# Altium footprint library ee52_tago_pcb.PcbLib: 13 footprints
Each footprint in its own frame and in the unit in brackets; x right, y up, seen from the top. Pads: shape width x height; smd on the part's side, far side on the other; paste and mask are expansions set on the pad; w line width, h text height; cw(c..) or ccw(c..) is an arc to the next point about the centre after c.
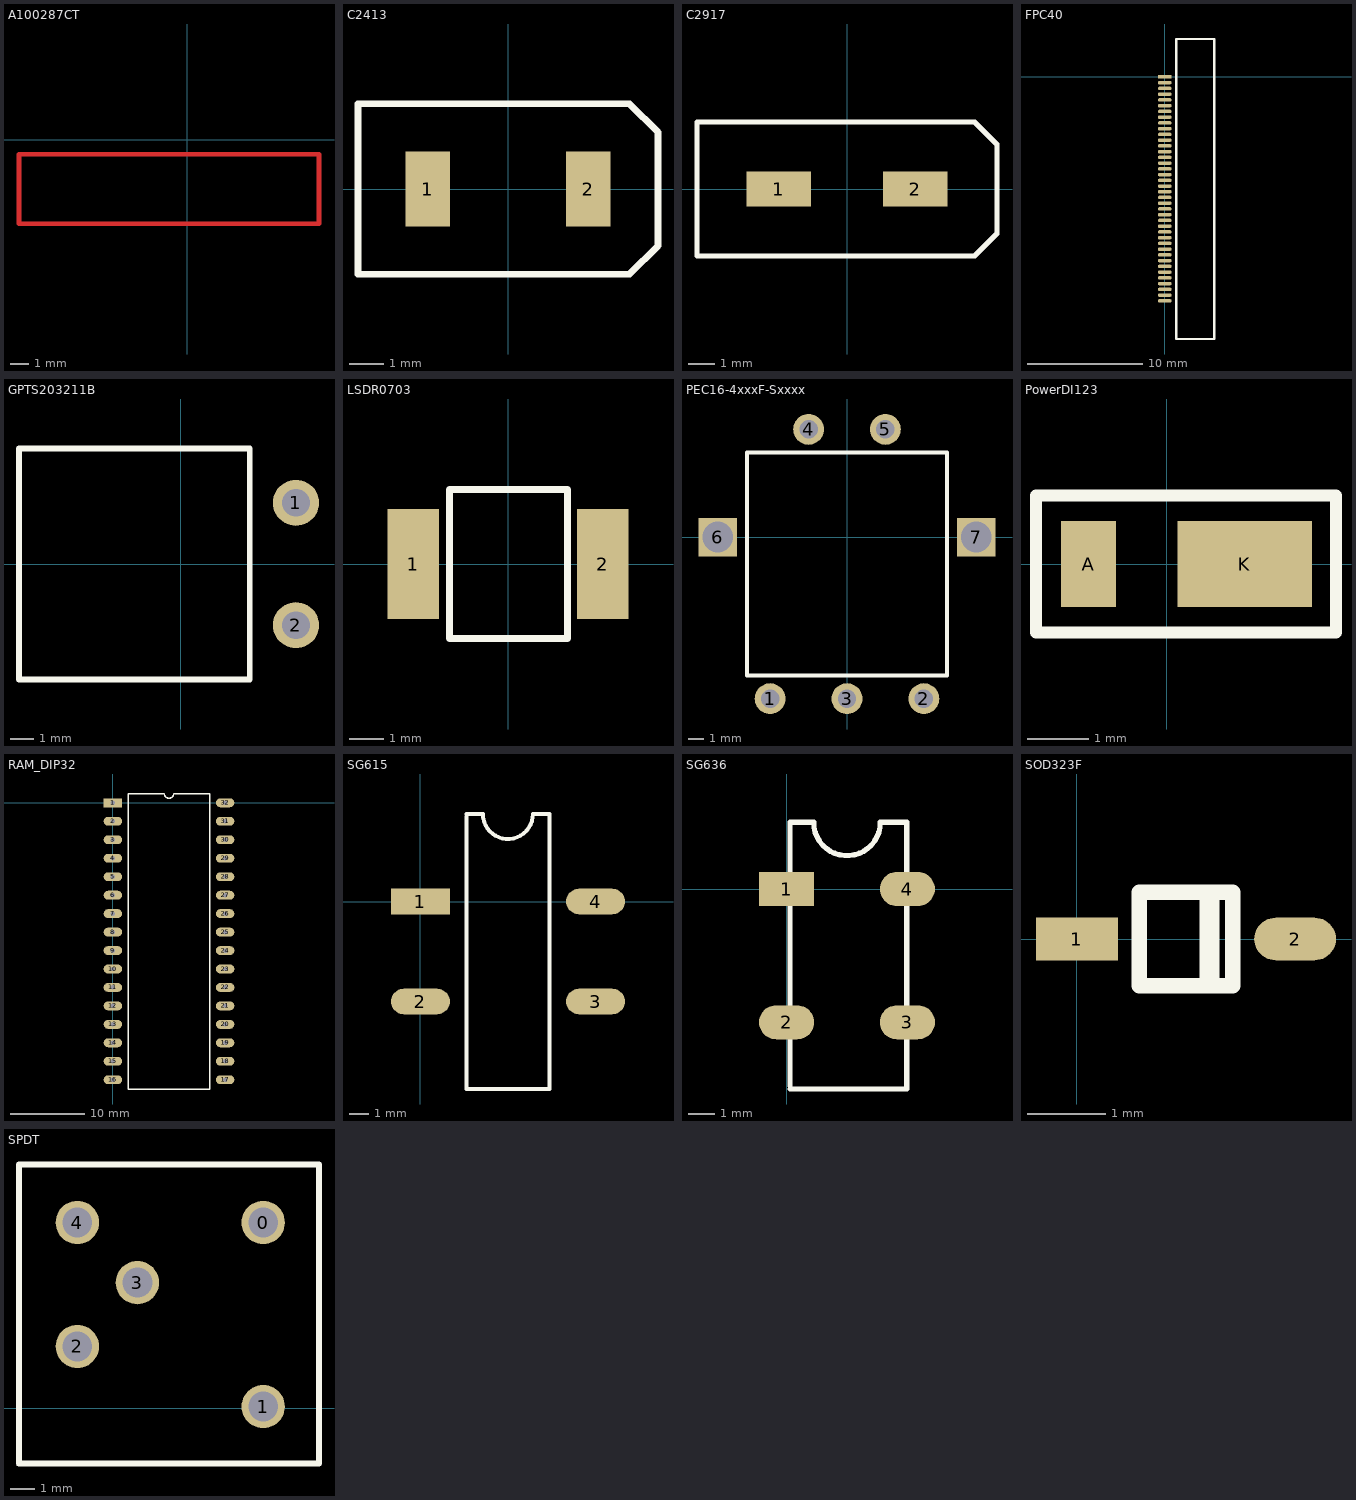
[diagram p0: the footprints below, top view; thin cyan lines are the x and y axes]

## A100287CT [mm] "Display FLP Connector"
Top Layer:
  lines w0.254: -8.89,-4.445 -8.89,-0.762 6.985,-0.762 6.985,-4.445 -8.89,-4.445

## C2413 [mm]
pads (2):
  rect 1.3x2.2 smd: 1(-2.35,0) 2(2.35,0)
Top Overlay:
  lines w0.2: -4.4,-2.5 -4.4,0 -4.4,2.5 3.567,2.5 4.4,1.667 4.4,-1.667 3.567,-2.5 -4.4,-2.5

## C2917 [mm]
pads (2):
  rect 2.4x1.3 smd: 1(-2.55,0) 2(2.55,0)
Top Overlay:
  lines w0.2: -5.6,-2.5 -5.6,0 -5.6,2.5 4.767,2.5 5.6,1.667 5.6,-1.667 4.767,-2.5 -5.6,-2.5

## FPC40 [mm]
pads (40):
  oval 1.2x0.3 smd: 1(0,-19.482) 2(0,-18.982) 3(0,-18.482) 4(0,-17.982) 5(0,-17.482) 6(0,-16.982) 7(0,-16.482) 8(0,-15.982) 9(0,-15.482) 10(0,-14.982) 11(0,-14.482) 12(0,-13.982) 13(0,-13.482) 14(0,-12.982) 15(0,-12.482) 16(0,-11.982) 17(0,-11.482) 18(0,-10.982) 19(0,-10.482) 20(0,-9.982) 21(0,-9.5) 22(0,-9) 23(0,-8.5) 24(0,-8) 25(0,-7.5) 26(0,-7) 27(0,-6.5) 28(0,-6) 29(0,-5.5) 30(0,-5) 31(0,-4.5) 32(0,-4) 33(0,-3.5) 34(0,-3) 35(0,-2.5) 36(0,-2) 37(0,-1.5) 38(0,-1) 39(0,-0.5)
  rect 1.2x0.3 smd: 40(0,0)
Top Overlay:
  lines w0.2: 1,-22.8 4.3,-22.8 4.3,3.3 1,3.3 1,-22.8

## GPTS203211B [mm]
pads (2):
  round 2 hole 1.2: 1(5,2.65) 2(5,-2.65)
Top Overlay:
  lines w0.254: -7,-5 3,-5 3,5 -7,5 -7,-5

## LSDR0703 [mm]
pads (2):
  rect 1.5x3.2 smd: 1(-2.75,0) 2(2.75,0)
Top Overlay:
  lines w0.2: -1.702,-2.159 -1.702,2.159 1.727,2.159 1.727,-2.159 -1.702,-2.159

## PEC16-4xxxF-Sxxxx [mm]
pads (7):
  round 2 hole 1.2: 1(-5,-10.5) 2(5,-10.5) 3(0,-10.5) 4(-2.5,7) 5(2.5,7)
  rect 2.5x2.5 hole 2: 6(-8.4,0) 7(8.4,0)
Top Overlay:
  lines w0.254: -6.5,-9 6.5,-9 6.5,5.5 -6.5,5.5 -6.5,-9

## PowerDI123 [mm]
pads (2):
  rect 0.9x1.4 smd: A(-1.275,0)
  rect 2.2x1.4 smd: K(1.275,0)
Top Overlay:
  lines w0.2: -2.134,-1.118 2.769,-1.118 2.769,1.118 -2.134,1.118 -2.134,-1.118

## RAM_DIP32 [mm]
pads (32):
  rect 2.5x1.2 hole 0.6: 1(0,0)
  oval 2.5x1.2 hole 0.6: 2(0,-2.5) 3(0,-5) 4(0,-7.5) 5(0,-10) 6(0,-12.5) 7(0,-15) 8(0,-17.5) 9(0,-20) 10(0,-22.5) 11(0,-25) 12(0,-27.5) 13(0,-30) 14(0,-32.5) 15(0,-35) 16(0,-37.5) 17(15.2,-37.5) 18(15.2,-35) 19(15.2,-32.5) 20(15.2,-30) 21(15.2,-27.5) 22(15.2,-25) 23(15.2,-22.5) 24(15.2,-20) 25(15.2,-17.5) 26(15.2,-15) 27(15.2,-12.5) 28(15.2,-10) 29(15.2,-7.5) 30(15.2,-5) 31(15.2,-2.5) 32(15.2,0)
Top Overlay:
  lines w0.2: 2.085,-38.75 13.115,-38.75 13.115,1.25 8.225,1.25 cw(c7.6,1.25) 6.975,1.25 2.085,1.25 2.085,-38.75

## SG615 [mm]
pads (4):
  rect 3x1.3 smd: 1(0,0)
  oval 3x1.3 smd: 2(0,-5.08) 3(8.9,-5.08) 4(8.9,0)
Top Overlay:
  lines w0.2: 2.33,4.445 3.175,4.445 ccw(c4.445,4.445) 5.715,4.445 ; 2.335,4.318 2.335,-9.525 6.565,-9.525 6.565,-5.08 6.565,0 6.565,4.445 5.72,4.445

## SG636 [mm]
pads (4):
  rect 2.1x1.3 smd: 1(0,0)
  oval 2.1x1.3 smd: 2(0,-5.08) 3(4.6,-5.08) 4(4.6,0)
Top Overlay:
  lines w0.2: 0.127,-7.62 4.572,-7.62 4.572,2.54 3.57,2.54 cw(c2.3,2.54) 1.03,2.54 ; 0.127,-7.493 0.127,2.54 ; 0.161,2.54 1.016,2.54

## SOD323F [mm]
pads (2):
  rect 1.05x0.55 smd: 1(0,0)
  oval 1.05x0.55 smd: 2(2.8,0)
Top Overlay:
  lines w0.2: 0.8,-0.6 0.8,0.6 2,0.6 2,-0.6 0.8,-0.6
  lines w0.254: 1.7,-0.5 1.7,0.5

## SPDT [mil] "SPDT Switch"
pads (5):
  round 70 hole 48: 0(-787,300) 1(-787,3) 2(-1087,100) 3(-990,203) 4(-1087,300)
Top Overlay:
  lines w10: -697.3,393.7 -1181.1,393.7 -1181.1,-88.9 -1181,-89 -697,-89 -697,393.4